# Altium schematic symbol library ICs-Optocouplers.SchLib: 2 symbols
Pins are listed as number, name and electrical type; pins without a type are passive.

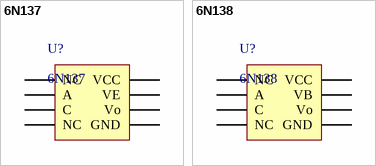
[diagram p0: symbols 6N137 to 6N138]

## 6N137
designator U?
footprint PDIP-8
pins: 1 NC, 2 A, 3 C, 4 NC, 5 GND, 6 Vo, 7 VE, 8 VCC

## 6N138
designator U?
footprint PDIP-8
pins: 1 NC, 2 A, 3 C, 4 NC, 5 GND, 6 Vo, 7 VB, 8 VCC